# EAGLE library part SI1151-AB00-GM (library SI1151-AB00-GM)
SI1151-AB00-GM Proximity/Ambient Light Sensor IC with I2C Interface
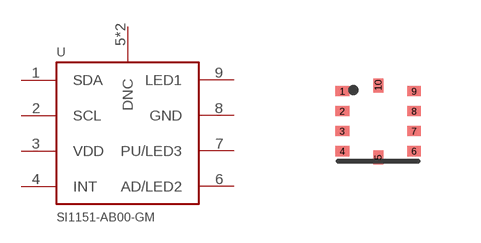
[diagram p0: symbol with the pads of SI1151-AB00-GM; footprint SI1151-AB00-GM]

Designator prefix U

## SI1151-AB00-GM  [SI1151-AB00-GM]
1  SDA
2  SCL
3  VDD  pwr
4  INT
5  DNC  nc
6  AD/LED2
7  PU/LED3
8  GND  pwr
9  LED1
10  DNC  nc

## Footprint SI1151-AB00-GM (pad centres in mm)
smd 0.35 x 0.25: 1 0.1,1.75; 2 0.1,1.25; 3 0.1,0.75; 4 0.1,0.25; 6 1.9,0.25; 7 1.9,0.75; 8 1.9,1.25; 9 1.9,1.75
smd 0.25 x 0.35: 5 1,0.1; 10 1,1.9